# Altium integrated library ALTIUM-WP-SHFU_FULL_PLAIN-rev17a.IntLib: 7 symbols
Pins are listed as number, name and electrical type; pins without a type are passive.

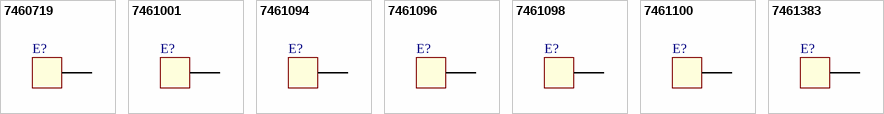
[diagram p0: symbols 7460719 to 7461383]

## 7460719
designator E?
REDCUBE PRESS-FIT with external thread, full plain WP-SHFU, M8, 13 mm; Part Number: 7460719; Pin Number: 25; Rated Current: 250 A; Thread Length: 13 mm; ComponentLink1Description: Manufacturer; ComponentLink1URL: http://www.we-online.de; ComponentLink2Description: Datasheet; ComponentLink2URL: http://katalog.we-online.de/em/datasheet/7460719.pdf; Published Date: Feb. 2017; Publisher: Wurth Elektronik; Thread: M8
footprint 7460719_Chemical Surface (M8, thread 13mm)
footprint 7460719_HAL Surface (M8, thread 13mm)
pins: 1

## 7461001
designator E?
REDCUBE PRESS-FIT with external thread, full plain WP-SHFU, M5, 8 mm; Part Number: 7461001; Pin Number: 9; Rated Current: 130 A; Thread Length: 8 mm; ComponentLink1Description: Manufacturer; ComponentLink1URL: http://www.we-online.de; ComponentLink2Description: Datasheet; ComponentLink2URL: http://katalog.we-online.de/em/datasheet/7461001.pdf; Published Date: Feb. 2017; Publisher: Wurth Elektronik; Thread: M5
footprint 7461001_Chemical Surface (M5, thread 8mm)
footprint 7461001_HAL Surface (M5, thread 8mm)
pins: 1

## 7461094
designator E?
REDCUBE PRESS-FIT with external thread, full plain WP-SHFU, M3, 5 mm; Part Number: 7461094; Pin Number: 9; Rated Current: 130 A; Thread Length: 5 mm; ComponentLink1Description: Manufacturer; ComponentLink1URL: http://www.we-online.de; ComponentLink2Description: Datasheet; ComponentLink2URL: http://katalog.we-online.de/em/datasheet/7461094.pdf; Published Date: Feb. 2017; Publisher: Wurth Elektronik; Thread: M3
footprint 7461094_Chemical Surface (M3, thread 5mm)
footprint 7461094_HAL Surface (M3, thread 5mm)
pins: 1

## 7461096
designator E?
REDCUBE PRESS-FIT with external thread, full plain WP-SHFU, M4, 6 mm; Part Number: 7461096; Pin Number: 9; Rated Current: 130 A; Thread Length: 6 mm; ComponentLink1Description: Manufacturer; ComponentLink1URL: http://www.we-online.de; ComponentLink2Description: Datasheet; ComponentLink2URL: http://katalog.we-online.de/em/datasheet/7461096.pdf; Published Date: Feb. 2017; Publisher: Wurth Elektronik; Thread: M4
footprint 7461096_Chemical Surface (M4, thread 6mm)
footprint 7461096_HAL Surface (M4, thread 6mm)
pins: 1

## 7461098
designator E?
REDCUBE PRESS-FIT with external thread, full plain WP-SHFU, M6, 10 mm; Part Number: 7461098; Pin Number: 25; Rated Current: 250 A; Thread Length: 10 mm; ComponentLink1Description: Manufacturer; ComponentLink1URL: http://www.we-online.de; ComponentLink2Description: Datasheet; ComponentLink2URL: http://katalog.we-online.de/em/datasheet/7461098.pdf; Published Date: Feb. 2017; Publisher: Wurth Elektronik; Thread: M6
footprint 7461098_Chemical Surface (M6, thread 10mm)
footprint 7461098_HAL Surface (M6, thread 10mm)
pins: 1

## 7461100
designator E?
REDCUBE PRESS-FIT with external thread, full plain WP-SHFU, M10, 16 mm; Part Number: 7461100; Pin Number: 36; Rated Current: 340 A; Thread Length: 16 mm; ComponentLink1Description: Manufacturer; ComponentLink1URL: http://www.we-online.de; ComponentLink2Description: Datasheet; ComponentLink2URL: http://katalog.we-online.de/em/datasheet/7461100.pdf; Published Date: Feb. 2017; Publisher: Wurth Elektronik; Thread: M10
footprint 7461100_Chemical Surface (M10, thread 16mm)
footprint 7461100_HAL Surface (M10, thread 16mm)
pins: 1

## 7461383
designator E?
REDCUBE PRESS-FIT with external thread, full plain WP-SHFU, M5, 8 mm; Part Number: 7461383; Pin Number: 16; Rated Current: 180 A; Thread Length: 8 mm; ComponentLink1Description: Manufacturer; ComponentLink1URL: http://www.we-online.de; ComponentLink2Description: Datasheet; ComponentLink2URL: http://katalog.we-online.de/em/datasheet/7461383.pdf; Published Date: Feb. 2017; Publisher: Wurth Elektronik; Thread: M5
footprint 7461383_Chemical Surface (M5, thread 8mm)
footprint 7461383_HAL Surface (M5, thread 8mm)
pins: 1